# Altium footprint library Charger_PCBLIB.PcbLib: 32 footprints (part 1 of 2)
Each footprint in its own frame and in the unit in brackets; x right, y up, seen from the top. Pads: shape width x height; smd on the part's side, far side on the other; paste and mask are expansions set on the pad; w line width, h text height; cw(c..) or ccw(c..) is an arc to the next point about the centre after c.
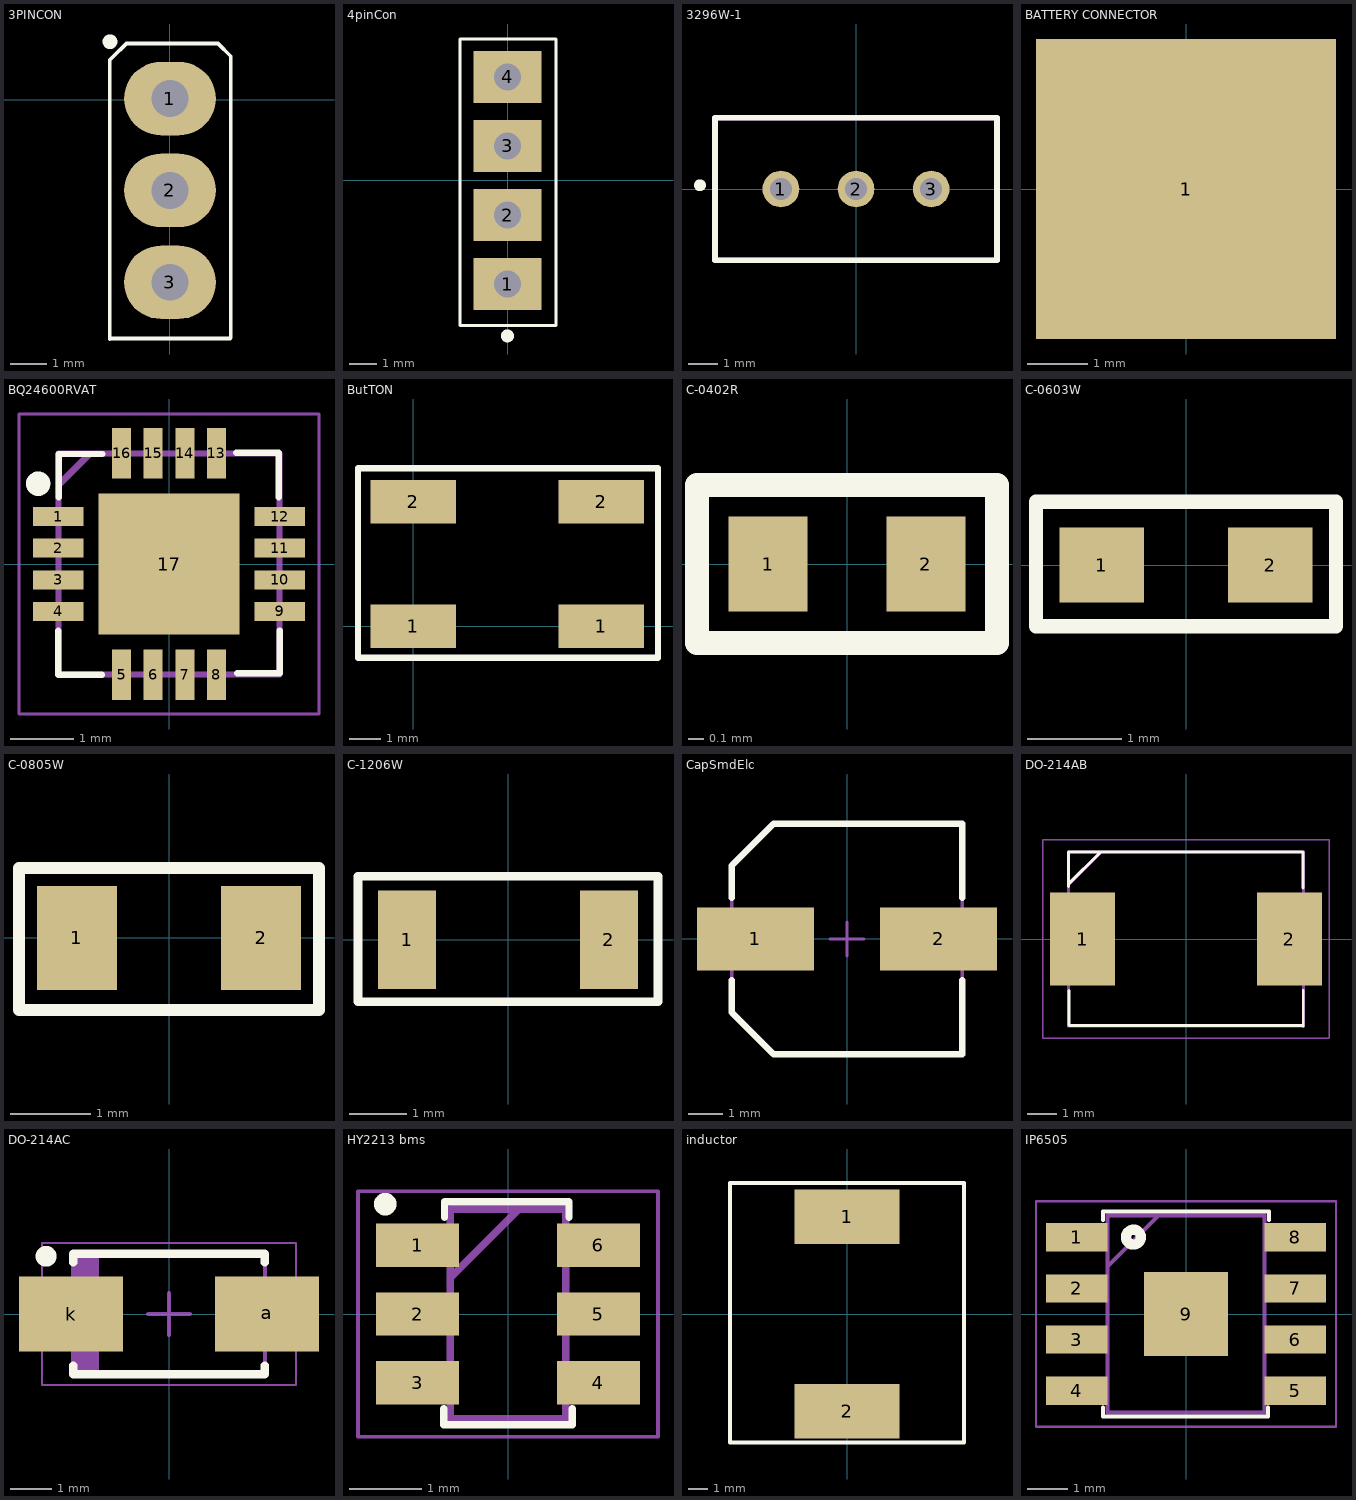
[diagram p0: the footprints below, top view; thin cyan lines are the x and y axes]

## 3PINCON [mm]
pads (3):
  oval 2.5x2 hole 1: 1(0,0.025) 2(0,-2.475) 3(0,-4.975)
Top Overlay:
  circle w0.254: c-1.634,1.574 r0.074
  lines w0.1: -1.636,-6.519 -1.636,-4.604 -1.636,-0.774 -1.636,1.074 -1.569,1.141 -1.186,1.524 ; -1.636,-6.508 1.635,-6.508 1.655,-6.488 1.655,1.178 1.306,1.527 -1.183,1.527 -1.186,1.524 ; -1.156,1.524 -1.186,1.524
3D body: height 1.4, standoff -1.4, extent -5,-0.775 -5,-0.775
3D body "Pin Header 1x3 TH Pitch 2.54mm.stp": height 9.21, standoff -3.49, extent -1.27,-6.245 1.27,1.375

## 4pinCon [mm]
pads (4):
  rect 2.5x1.9 hole 1: 1(0,-3.81) 2(0,-1.27) 3(0,1.27) 4(0,3.81)
Top Overlay:
  circle w0.254: c-0.007,-5.72 r0.113
  lines w0.1: -1.75,-5.334 -1.75,5.207 1.778,5.207 1.778,-5.334 0.515,-5.334 -0.487,-5.334 -1.75,-5.334
3D body "User Library-SIP_header_2_54mm_4pin.STEP": height 4.94, standoff -2.26, extent -1.175,-4.953 1.397,5.207

## 3296W-1 [mm]
pads (3):
  round 1.24 hole 0.74: 1(-2.54,0) 2(0,0) 3(2.54,0)
Top Overlay:
  circle w0.2: c-5.277,0.127 r0.1
  lines w0.2: -4.765,-2.41 4.765,-2.41 4.765,2.41 -4.765,2.41 -4.765,-2.41
Mechanical 13:
  lines w0.2: -4.765,-2.41 4.765,-2.41 4.765,2.41 -4.765,2.41 -4.765,-2.41
3D body "3296W-1-100LF.stp": height 11.55, standoff -3.01, extent -4.775,-2.476 4.775,2.35

## BATTERY CONNECTOR [mm]
pads (1):
  rect 5x5 smd: 1(0,0)

## BQ24600RVAT [mm]
pads (17):
  rect 0.8x0.3 smd: 1(-1.75,0.75) 2(-1.75,0.25) 3(-1.75,-0.25) 4(-1.75,-0.75) 9(1.75,-0.75) 10(1.75,-0.25) 11(1.75,0.25) 12(1.75,0.75)
  rect 0.3x0.8 smd: 5(-0.75,-1.75) 6(-0.25,-1.75) 7(0.25,-1.75) 8(0.75,-1.75) 13(0.75,1.75) 14(0.25,1.75) 15(-0.25,1.75) 16(-0.75,1.75)
  rect 2.24x2.24 smd: 17(0,0)
Top Overlay:
  circle w0.254: c-2.072,1.272 r0.066
  lines w0.1: -1.753,-1.056 -1.753,-1.752 -1.06,-1.752 ; -1.747,1.057 -1.747,1.741 -1.054,1.741 ; 1.066,1.76 1.736,1.76 1.736,1.057 ; 1.082,-1.731 1.418,-1.731 1.753,-1.731 1.753,-1.052
Mechanical 13:
  lines w0.1: -1.75,1.25 -1.25,1.75 ; -1.75,-1.75 -1.75,1.75 1.75,1.75 1.75,-1.75 -1.75,-1.75
Mechanical 15:
  lines w0.05: -2.375,-2.375 -2.375,2.375 2.375,2.375 2.375,-2.375 -2.375,-2.375
3D body "BQ24600RVAT.stp": height 1, standoff 0, extent -1.8,-1.8 1.8,1.8

## ButTON [mm]
pads (4):
  rect 2.75x1.4 smd: 1(0,0) 1(6.05,0) 2(0,4) 2(6.05,4)
Top Overlay:
  lines w0.2: -1.778,-1.016 -1.778,5.08 7.874,5.08 7.874,-1.016 -1.778,-1.016
3D body "Tactal Switch - SMD (6mmx 6mmx 9mm) - Marked.stp": height 9, standoff 0, extent -1.461,-0.984 7.556,5.048

## C-0402R [mm] "Capacitor 0402 reflow soldering"
pads (2):
  rect 0.5x0.6 smd: 1(-0.5,0) 2(0.5,0)
Top Overlay:
  lines w0.152: 0.5,-0.5 0.95,-0.5 0.95,0.5 0.5,0.5 -0.95,0.5 -0.95,-0.5 0.508,-0.5
3D body "CAP0402.stp": height 0.2, standoff 0, extent -0.5,-0.3 0.5,0.3

## C-0603W [mm] "capacitor 0603 wave soldering"
pads (2):
  rect 0.9x0.8 smd: 1(-0.9,0) 2(0.9,0)
Top Overlay:
  lines w0.152: -1.6,-0.65 -1.6,0.675 0.525,0.675 1.6,0.675 1.6,-0.65 0.55,-0.65 -1.6,-0.65
3D body "CAP0603.stp": height 0.3, standoff 0, extent -0.8,-0.4 0.8,0.4

## C-0805W [mm] "capacitor 0805 wave soldering"
pads (2):
  rect 1x1.3 smd: 1(-1.15,0) 2(1.15,0)
Top Overlay:
  lines w0.152: -1.875,-0.9 0.6,-0.9 1.875,-0.9 1.875,0.875 0.6,0.875 -1.875,0.875 -1.875,-0.9
3D body "CAP0805.stp": height 0.78, standoff 0, extent -1,-0.625 1,0.625

## C-1206W [mm] "capacitor 1206 wave soldering"
pads (2):
  rect 1x1.7 smd: 1(-1.75,0) 2(1.75,0)
Top Overlay:
  lines w0.152: -2.6,-1.075 -2.6,1.1 2.6,1.1 2.6,-1.075 2.45,-1.075 -2.6,-1.075
3D body "CAP1206.stp": height 1, standoff 0, extent -1.6,-0.8 1.6,0.8

## CapSmdElc [mm] "Aluminum Electrolytic Capacitor, Body 6.70x6.70x6.30mm, IPC Low Density"
height 6.3
pads (2):
  rect 3.45x1.85 smd: 1(-2.7,0) 2(2.7,0)
Top Overlay:
  lines w0.2: -3.4,-1.225 -3.4,-2.163 -2.163,-3.4 3.4,-3.4 3.4,-1.225 ; -3.4,1.225 -3.4,2.163 -2.163,3.4 3.4,3.4 3.4,1.225
Assembly Top:
  lines w0.1: -3.4,-2.163 -3.4,2.163 -2.163,3.4 3.4,3.4 3.4,-3.4 -2.163,-3.4 -3.4,-2.163
Courtyard Top:
  lines w0.1: -0.5,0 0.5,0 ; 0,-0.5 0,0.5
3D body "User Library-Nichicon_CW6_3x7.STEP": height 6.92, standoff 0.01, extent -3.45,-3.275 3.55,3.325

## DO-214AB [mm]
pads (2):
  rect 2.2x3.15 smd: 1(-3.5,0) 2(3.5,0)
Top Overlay:
  lines w0.1: -3.969,1.769 -3.969,2.939 3.952,2.939 3.952,1.726 ; -3.969,1.865 -2.904,2.93 -2.897,2.93 ; -3.961,-1.735 -3.961,-2.932 3.957,-2.932 3.966,-2.941 3.966,-1.735
Mechanical 13:
  lines w0.1: -3.97,1.852 -2.87,2.952 ; -3.97,-2.952 3.97,-2.952 3.97,2.952 -3.97,2.952 -3.97,-2.952
Mechanical 15:
  lines w0.05: -4.85,-3.36 4.85,-3.36 4.85,3.36 -4.85,3.36 -4.85,-3.36
3D body "1.5SMC15A.stp": height 2.62, standoff 0, extent -3.97,-2.953 3.97,2.953

## DO-214AC [mm]
height 1.35
pads (2):
  rect 2.5x1.8 smd: a(2.35,0) k(-2.35,0)
Top Overlay:
  circle w0.25: c-2.95,1.385 r0.125
  lines w0.2: -2.3,-1.235 -2.3,-1.45 2.3,-1.45 2.3,-1.235 ; -2.3,1.235 -2.3,1.45 2.3,1.45 2.3,1.235
Assembly Top:
  rectangle: -2.3,-1.45 -1.681,1.45
  lines w0.1: -2.3,-1.45 -2.3,1.45 2.3,1.45 2.3,-1.45 -2.3,-1.45
Courtyard Top:
  lines w0.05: -3.05,-1.7 -3.05,1.7 3.05,1.7 3.05,-1.7 -3.05,-1.7
  lines w0.1: -0.5,0 0.5,0 ; 0,-0.5 0,0.5
3D body "User Library-DO-214AC(SMA).STEP": height 2.3, standoff 0.01, extent -2.768,-1.422 2.718,1.372

## HY2213 bms [mm]
pads (6):
  rect 1.15x0.6 smd: 1(-1.25,0.95) 2(-1.25,0) 3(-1.25,-0.95) 4(1.25,-0.95) 5(1.25,0) 6(1.25,0.95)
Top Overlay:
  circle w0.254: c-1.699,1.52 r0.028
  lines w0.1: -0.887,-1.311 -0.887,-1.533 0.888,-1.533 0.888,-1.311 ; -0.877,1.337 -0.877,1.552 ; 0.845,1.337 0.845,1.552 -0.877,1.552 ; -0.877,1.552 -0.877,1.552
Mechanical 13:
  lines w0.1: -0.8,0.5 0.15,1.45 ; -0.8,-1.45 0.8,-1.45 0.8,1.45 -0.8,1.45 -0.8,-1.45
Mechanical 15:
  lines w0.05: -2.075,-1.7 2.075,-1.7 2.075,1.7 -2.075,1.7 -2.075,-1.7
3D body "HY2213-BB3A.stp": height 1.4, standoff 0, extent -1.4,-1.45 1.4,1.45

## inductor [mm]
pads (2):
  rect 5.4x2.8 smd: 1(0,5) 2(0,-5)
Top Overlay:
  lines w0.2: -6.015,-6.604 -6.015,6.731 6.015,6.731 6.015,-6.604 -6.015,-6.604
3D body "User Library-DR127-1.STEP": height 8.01, standoff 0.01, extent -6.377,-6.25 6.123,6.25
3D body: height 0.04, standoff -25.5, extent 0,0 0,0

## IP6505 [mm]
pads (9):
  rect 1.525x0.7 smd: 1(-2.712,1.905) 2(-2.712,0.635) 3(-2.712,-0.635) 4(-2.712,-1.905) 5(2.712,-1.905) 6(2.712,-0.635) 7(2.712,0.635) 8(2.712,1.905)
  rect 2.09x2.09 smd: 9(0,0)
Top Overlay:
  circle w0.254: c-1.305,1.908 r0.186
  lines w0.1: -2.062,2.332 -2.062,2.546 2.064,2.546 2.064,2.332 ; -2.058,-2.32 -2.058,-2.54 ; 2.034,-2.32 2.034,-2.54 -2.058,-2.54 ; -2.058,-2.54 -2.058,-2.54
Mechanical 13:
  lines w0.1: -1.95,1.18 -0.68,2.45 ; -1.95,-2.45 -1.95,2.45 1.95,2.45 1.95,-2.45 -1.95,-2.45
Mechanical 15:
  lines w0.05: -3.725,-2.8 -3.725,2.8 3.725,2.8 3.725,-2.8 -3.725,-2.8
3D body "IP6505.stp": height 1.65, standoff 0, extent -3,-2.45 3,2.45